# EAGLE library part MAX869L (library OSSI)
2A, Current-Limited, High-Side P-Channel Switch with Thermal Shutdown
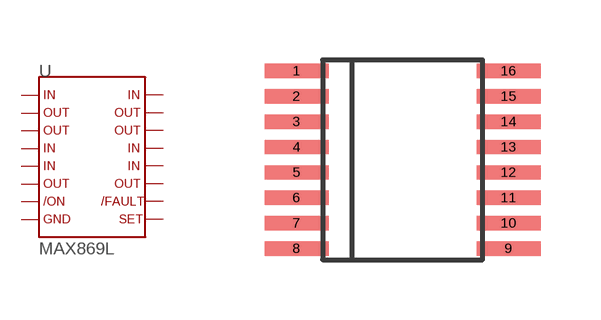
[diagram p51: symbol with the pads of 16QSOP; footprint 16QSOP]

Designator prefix U

## MAX869L  [16QSOP]
1  P$1  pwr
2  P$2  pwr
3  P$3  pwr
4  P$4  pwr
5  P$5  pwr
6  P$6  pwr
7  P$7  in
8  P$8  pwr
9  P$9  pas
10  P$10  out
11  P$11  pwr
12  P$12  pwr
13  P$13  pwr
14  P$14  pwr
15  P$15  pwr
16  P$16  pwr

## Footprint 16QSOP (pad centres in mm)
smd 1.6 x 0.356: 1 -2.65,2.223; 2 -2.65,1.587; 3 -2.65,0.953; 4 -2.65,0.318; 5 -2.65,-0.318; 6 -2.65,-0.953; 7 -2.65,-1.587; 8 -2.65,-2.223; 9 2.65,-2.223; 10 2.65,-1.587; 11 2.65,-0.953; 12 2.65,-0.318; 13 2.65,0.318; 14 2.65,0.953; 15 2.65,1.587; 16 2.65,2.223